# Altium footprint library cahrgebot_digital.PcbLib: 72 footprints (part 5 of 5)
Each footprint in its own frame and in the unit in brackets; x right, y up, seen from the top. Pads: shape width x height; smd on the part's side, far side on the other; paste and mask are expansions set on the pad; w line width, h text height; cw(c..) or ccw(c..) is an arc to the next point about the centre after c.
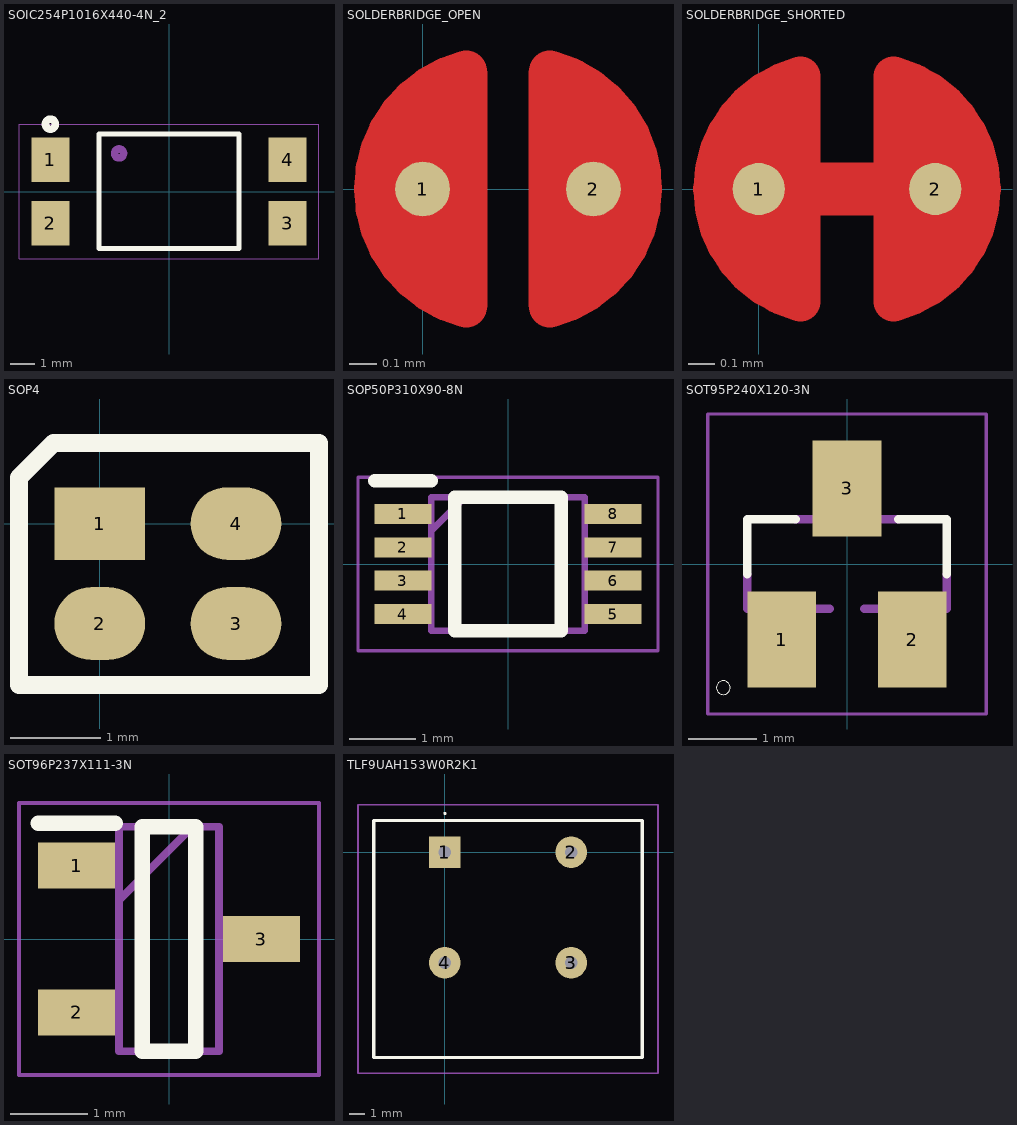
[diagram p4: the footprints below, top view; thin cyan lines are the x and y axes]

## SOIC254P1016X440-4N_2 [mm]
height 3.8
pads (4):
  rect 1.52x1.78 smd: 1(-4.76,1.27) 2(-4.76,-1.27) 3(4.76,-1.27) 4(4.76,1.27)
Top Overlay:
  circle w0.3: c-4.758,2.703 r0.2
  lines w0.2: -2.8,2.29 -2.8,-2.29 2.8,-2.29 2.8,2.29 ; -2.8,2.3 2.8,2.3
Top Component Outline:
  circle w0.3: c-2.003,1.53 r0.18
Top Courtyard:
  lines w0.05: -6.02,-2.7 6.02,-2.7 6.02,2.7 -6.02,2.7 -6.02,-2.7
Top Designator:
  text ".Designator" at -3.434,3.202 h1.52
3D body "step_temp.STEP": height 1.75, standoff -1.94, extent -5.08,-2.29 5.08,2.29

## SOLDERBRIDGE_OPEN [mm]
pads (2):
  round 0.2 smd paste-10: 1(0,0) 2(0.625,0)
Top Layer:
  region: 0.389,0.432 0.465,0.505 0.583,0.467 0.648,0.424 0.721,0.351 0.775,0.292 0.833,0.193 0.861,0.099 0.856,-0.122 0.831,-0.193 0.747,-0.33 0.663,-0.411 0.571,-0.469 0.47,-0.5 0.419,-0.483 0.389,-0.43
  region: 0.236,-0.432 0.16,-0.505 0.042,-0.467 -0.023,-0.424 -0.097,-0.351 -0.15,-0.292 -0.208,-0.193 -0.236,-0.099 -0.231,0.122 -0.206,0.193 -0.122,0.33 -0.038,0.411 0.054,0.469 0.155,0.5 0.206,0.483 0.236,0.43
  lines w0.152: 0.159,-0.431 cw(c0.27,0) -0.175,0 cw(c0.27,0) 0.159,0.431 ; 0.465,-0.431 ccw(c0.355,0) 0.799,0 ccw(c0.355,0) 0.782,0.122 ccw(c0.355,0) 0.465,0.431
Top Solder:
  circle w0.61: c0.31,0 r0.279
Top Designator:
  text ".Designator" at -3.094,1.268 h1.52

## SOLDERBRIDGE_SHORTED [mm]
pads (2):
  round 0.2 smd paste-10: 1(0,0) 2(0.676,0)
Top Layer:
  region: 0.236,-0.432 0.16,-0.505 0.042,-0.467 -0.023,-0.424 -0.097,-0.351 -0.15,-0.292 -0.208,-0.193 -0.236,-0.099 -0.231,0.122 -0.206,0.193 -0.122,0.33 -0.038,0.411 0.054,0.469 0.155,0.5 0.206,0.483 0.236,0.43
  region: 0.44,0.432 0.516,0.505 0.634,0.467 0.699,0.424 0.772,0.351 0.826,0.292 0.884,0.193 0.912,0.099 0.907,-0.122 0.881,-0.193 0.798,-0.33 0.714,-0.411 0.622,-0.469 0.521,-0.5 0.47,-0.483 0.44,-0.43
  lines w0.152: 0.159,-0.431 cw(c0.27,0) 0.159,0.431 ; 0.516,-0.431 ccw(c0.406,0) 0.516,0.431
  lines w0.203: 0,0 0.676,0
Top Solder:
  circle w0.61: c0.366,0 r0.279
  circle w0.61: c0.31,0 r0.279

## SOP4 [mm]
pads (4):
  rect 1x0.8 smd: 1(0,0)
  oval 1x0.8 smd: 2(0,-1.1) 3(1.5,-1.1) 4(1.5,0)
Top Overlay:
  lines w0.2: -0.889,-1.778 2.413,-1.778 2.413,0.889 2.159,0.889 -0.508,0.889 -0.889,0.508 -0.889,-1.778

## SOP50P310X90-8N [mm]
pads (8):
  rect 0.85x0.3 smd: 1(-1.575,0.75) 2(-1.575,0.25) 3(-1.575,-0.25) 4(-1.575,-0.75) 5(1.575,-0.75) 6(1.575,-0.25) 7(1.575,0.25) 8(1.575,0.75)
Top Overlay:
  lines w0.2: -2,1.25 -1.15,1.25 ; -0.8,-1 0.8,-1 0.8,1 -0.8,1 -0.8,-1
Mechanical 13:
  lines w0.1: -1.15,0.5 -0.65,1 ; -1.15,-1 1.15,-1 1.15,1 -1.15,1 -1.15,-1
Mechanical 15:
  lines w0.05: -2.25,-1.3 2.25,-1.3 2.25,1.3 -2.25,1.3 -2.25,-1.3
3D body "TXB0102DCURG4.stp": height 0.77, standoff 0, extent -1.55,-1 1.55,1

## SOT95P240X120-3N [mm]
pads (3):
  rect 1x1.4 smd: 1(-0.95,-1.1) 2(0.95,-1.1) 3(0,1.1)
Top Overlay:
  circle w0: c-1.8,-1.8 r0.1
  lines w0.127: -1.45,-0.15 -1.45,0.65 -0.75,0.65 ; 0.75,0.65 1.45,0.65 1.45,-0.15
Mechanical 13:
  lines w0.127: -1.45,-0.15 -1.45,-0.65 -0.25,-0.65 ; -0.75,0.65 0.75,0.65 ; 0.25,-0.65 1.45,-0.65 1.45,-0.15
Mechanical 15:
  lines w0.051: -2.023,-2.183 2.023,-2.183 2.023,2.183 -2.023,2.183 -2.023,-2.183
3D body "step_temp.STEP": height 1.2, standoff 0, extent -1.2,-1.46 1.2,1.46

## SOT96P237X111-3N [mm]
pads (3):
  rect 1x0.6 smd: 1(-1.2,0.955) 2(-1.2,-0.955) 3(1.2,0)
Top Overlay:
  lines w0.2: -1.7,1.505 -0.7,1.505 ; -0.35,-1.46 -0.35,1.46 0.35,1.46 0.35,-1.46 -0.35,-1.46
Top Component Outline:
  lines w0.1: -0.65,0.505 0.305,1.46 ; -0.65,-1.46 -0.65,1.46 0.65,1.46 0.65,-1.46 -0.65,-1.46
Mechanical 20:
  lines w0.05: -1.95,-1.77 -1.95,1.77 1.95,1.77 1.95,-1.77 -1.95,-1.77

## TLF9UAH153W0R2K1 [mm]
height 12
pads (4):
  rect 2x2 hole 0.8: 1(0,0)
  round 2 hole 0.8: 2(8,0) 3(8,-7) 4(0,-7)
Top Overlay:
  lines w0.1: 0,2.4 cw(c0,2.45) 0,2.5 cw(c0,2.45) 0,2.4
  lines w0.2: -4.5,-13 -4.5,2 12.5,2 12.5,-13 -4.5,-13
Top Component Outline:
  lines w0.1: -4.5,-13 -4.5,2 12.5,2 12.5,-13 -4.5,-13
Top Courtyard:
  lines w0.1: -5.5,-14 -5.5,3 13.5,3 13.5,-14 -5.5,-14
Top Designator:
  text ".Designator" at -3.618,-6.008 h1.52
3D body "TLF9UAH153W0R2K1.stp": height 12.1, standoff -5, extent -4.5,-13 12.5,2